# EAGLE library part CMV12000 (library andon-cmosis)
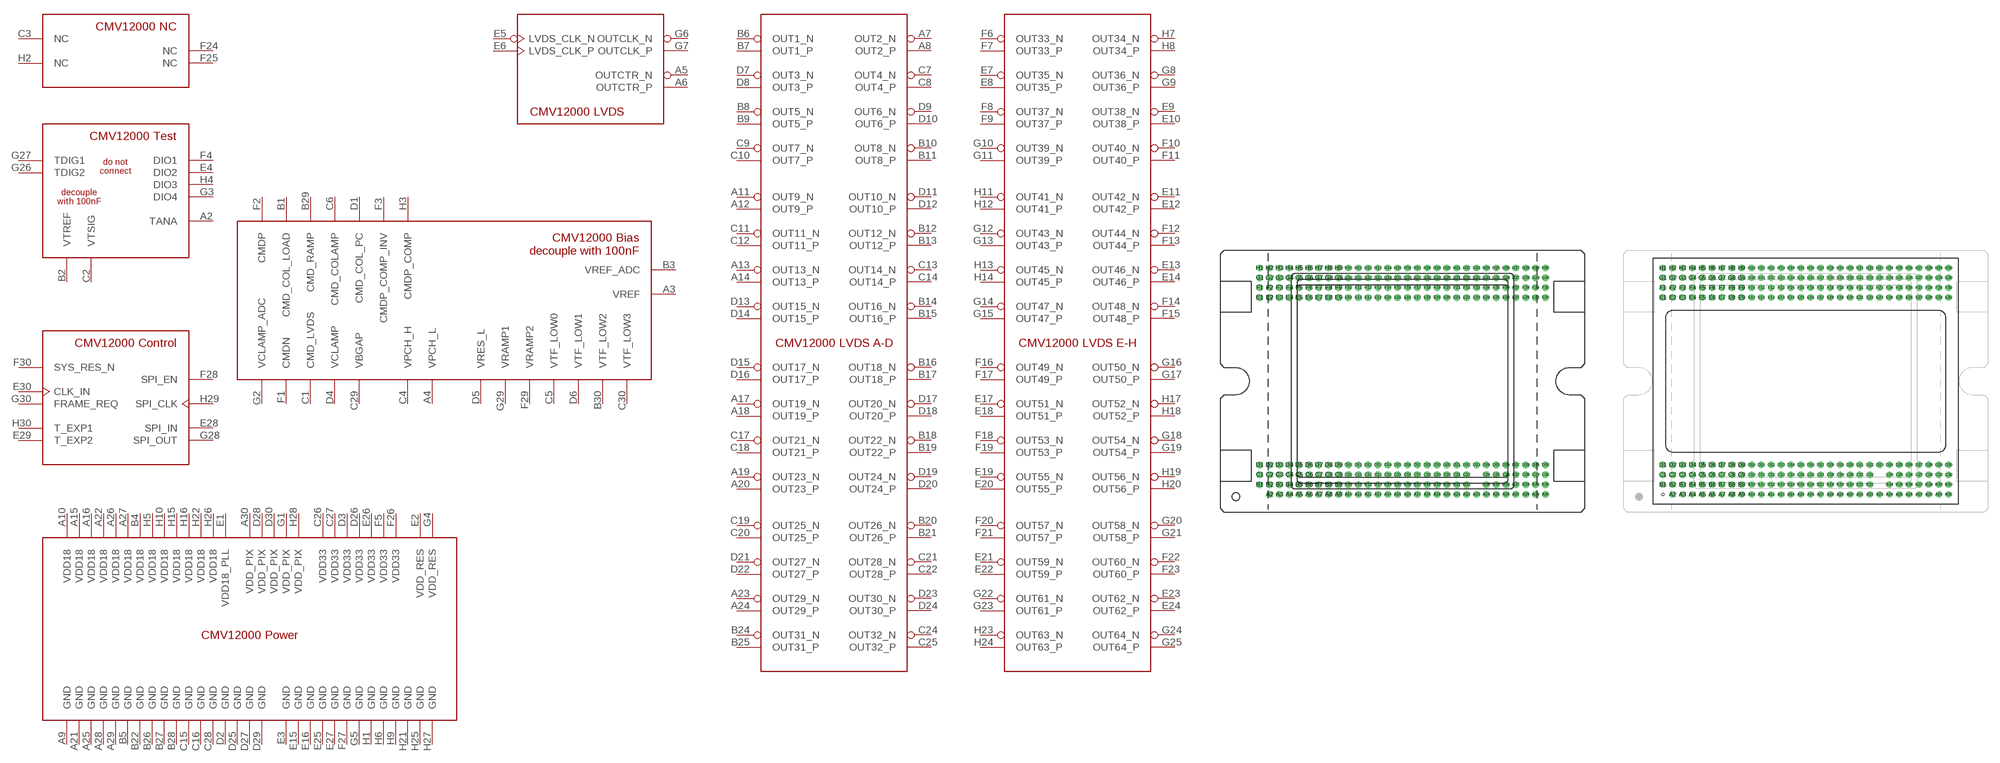
[diagram p0: symbol with the pads of CMV12000; footprints CMV12000, 10-30-07-237-400T4]

Designator prefix -; gates G$1=CMV12000 G$2=CMV12000_BIAS G$3=CMV12000_LVDS G$4=CMV12000_LVDS_AD G$5=CMV12000_LVDS_EH G$6=CMV12000_NC G$7=CMV12000_POWER G$8=CMV12000_TEST

## CMV12000  [CMV12000]
A2  G$8:TANA  out
A3  G$2:VREF
A4  G$2:VPCH_L
A5  G$3:OUTCTR_N  out
A6  G$3:OUTCTR_P  out
A7  G$4:OUT2_N  out
A8  G$4:OUT2_P  out
A9  G$7:GND  pwr
A10  G$7:VDD18  pwr
A11  G$4:OUT9_N  out
A12  G$4:OUT9_P  out
A13  G$4:OUT13_N  out
A14  G$4:OUT13_P  out
A15  G$7:VDD18  pwr
A16  G$7:VDD18  pwr
A17  G$4:OUT19_N  out
A18  G$4:OUT19_P  out
A19  G$4:OUT23_N  out
A20  G$4:OUT23_P  out
A21  G$7:GND  pwr
A22  G$7:VDD18  pwr
A23  G$4:OUT29_N  out
A24  G$4:OUT29_P  out
A25  G$7:GND  pwr
A26  G$7:VDD18  pwr
A27  G$7:VDD18  pwr
A28  G$7:GND  pwr
A29  G$7:GND  pwr
A30  G$7:VDD_PIX  pwr
B1  G$2:CMD_COL_LOAD
B2  G$8:VTREF
B3  G$2:VREF_ADC
B4  G$7:VDD18  pwr
B5  G$7:GND  pwr
B6  G$4:OUT1_N  out
B7  G$4:OUT1_P  out
B8  G$4:OUT5_N  out
B9  G$4:OUT5_P  out
B10  G$4:OUT8_N  out
B11  G$4:OUT8_P  out
B12  G$4:OUT12_N  out
B13  G$4:OUT12_P  out
B14  G$4:OUT16_N  out
B15  G$4:OUT16_P  out
B16  G$4:OUT18_N  out
B17  G$4:OUT18_P  out
B18  G$4:OUT22_N  out
B19  G$4:OUT22_P  out
B20  G$4:OUT26_N  out
B21  G$4:OUT26_P  out
B22  G$7:GND  pwr
B24  G$4:OUT31_N  out
B25  G$4:OUT31_P  out
B26  G$7:GND  pwr
B27  G$7:GND  pwr
B28  G$7:GND  pwr
B29  G$2:CMD_RAMP
B30  G$2:VTF_LOW2
C1  G$2:CMD_LVDS
C2  G$8:VTSIG
C3  G$6:NC  nc
C4  G$2:VPCH_H
C5  G$2:VTF_LOW0
C6  G$2:CMD_COLAMP
C7  G$4:OUT4_N  out
C8  G$4:OUT4_P  out
C9  G$4:OUT7_N  out
C10  G$4:OUT7_P  out
C11  G$4:OUT11_N  out
C12  G$4:OUT11_P  out
C13  G$4:OUT14_N  out
C14  G$4:OUT14_P  out
C15  G$7:GND  pwr
C16  G$7:GND  pwr
C17  G$4:OUT21_N  out
C18  G$4:OUT21_P  out
C19  G$4:OUT25_N  out
C20  G$4:OUT25_P  out
C21  G$4:OUT28_N  out
C22  G$4:OUT28_P  out
C24  G$4:OUT32_N  out
C25  G$4:OUT32_P  out
C26  G$7:VDD33  pwr
C27  G$7:VDD33  pwr
C28  G$7:GND  pwr
C29  G$2:VBGAP
C30  G$2:VTF_LOW3
D1  G$2:CMD_COL_PC
D2  G$7:GND  pwr
D3  G$7:VDD33  pwr
D4  G$2:VCLAMP
D5  G$2:VRES_L
D6  G$2:VTF_LOW1
D7  G$4:OUT3_N  out
D8  G$4:OUT3_P  out
D9  G$4:OUT6_N  out
D10  G$4:OUT6_P  out
D11  G$4:OUT10_N  out
D12  G$4:OUT10_P  out
D13  G$4:OUT15_N  out
D14  G$4:OUT15_P  out
D15  G$4:OUT17_N  out
D16  G$4:OUT17_P  out
D17  G$4:OUT20_N  out
D18  G$4:OUT20_P  out
D19  G$4:OUT24_N  out
D20  G$4:OUT24_P  out
D21  G$4:OUT27_N  out
D22  G$4:OUT27_P  out
D23  G$4:OUT30_N  out
D24  G$4:OUT30_P  out
D25  G$7:GND  pwr
D26  G$7:VDD33  pwr
D27  G$7:GND  pwr
D28  G$7:VDD_PIX  pwr
D29  G$7:GND  pwr
D30  G$7:VDD_PIX  pwr
E1  G$7:VDD18_PLL  pwr
E2  G$7:VDD_RES  pwr
E3  G$7:GND  pwr
E4  G$8:DIO2  out
E5  G$3:LVDS_CLK_N  in
E6  G$3:LVDS_CLK_P  in
E7  G$5:OUT35_N  out
E8  G$5:OUT35_P  out
E9  G$5:OUT38_N  out
E10  G$5:OUT38_P  out
E11  G$5:OUT42_N  out
E12  G$5:OUT42_P  out
E13  G$5:OUT46_N  out
E14  G$5:OUT46_P  out
E15  G$7:GND  pwr
E16  G$7:GND  pwr
E17  G$5:OUT51_N  out
E18  G$5:OUT51_P  out
E19  G$5:OUT55_N  out
E20  G$5:OUT55_P  out
E21  G$5:OUT59_N  out
E22  G$5:OUT59_P  out
E23  G$5:OUT62_N  out
E24  G$5:OUT62_P  out
E25  G$7:GND  pwr
E26  G$7:VDD33  pwr
E27  G$7:GND  pwr
E28  G$1:SPI_IN  in
E29  G$1:T_EXP2  in
E30  G$1:CLK_IN  in
F1  G$2:CMDN
F2  G$2:CMDP
F3  G$2:CMDP_COMP_INV
F4  G$8:DIO1  out
F5  G$7:VDD33  pwr
F6  G$5:OUT33_N  out
F7  G$5:OUT33_P  out
F8  G$5:OUT37_N  out
F9  G$5:OUT37_P  out
F10  G$5:OUT40_N  out
F11  G$5:OUT40_P  out
F12  G$5:OUT44_N  out
F13  G$5:OUT44_P  out
F14  G$5:OUT48_N  out
F15  G$5:OUT48_P  out
F16  G$5:OUT49_N  out
F17  G$5:OUT49_P  out
F18  G$5:OUT53_N  out
F19  G$5:OUT53_P  out
F20  G$5:OUT57_N  out
F21  G$5:OUT57_P  out
F22  G$5:OUT60_N  out
F23  G$5:OUT60_P  out
F24  G$6:NC  nc
F25  G$6:NC  nc
F26  G$7:VDD33  pwr
F27  G$7:GND  pwr
F28  G$1:SPI_EN  in
F29  G$2:VRAMP2
F30  G$1:SYS_RES_N  in
G1  G$7:VDD_PIX  pwr
G2  G$2:VCLAMP_ADC
G3  G$8:DIO4  out
G4  G$7:VDD_RES  pwr
G5  G$7:GND  pwr
G6  G$3:OUTCLK_N  out
G7  G$3:OUTCLK_P  out
G8  G$5:OUT36_N  out
G9  G$5:OUT36_P  out
G10  G$5:OUT39_N  out
G11  G$5:OUT39_P  out
G12  G$5:OUT43_N  out
G13  G$5:OUT43_P  out
G14  G$5:OUT47_N  out
G15  G$5:OUT47_P  out
G16  G$5:OUT50_N  out
G17  G$5:OUT50_P  out
G18  G$5:OUT54_N  out
G19  G$5:OUT54_P  out
G20  G$5:OUT58_N  out
G21  G$5:OUT58_P  out
G22  G$5:OUT61_N  out
G23  G$5:OUT61_P  out
G24  G$5:OUT64_N  out
G25  G$5:OUT64_P  out
G26  G$8:TDIG2  out
G27  G$8:TDIG1  out
G28  G$1:SPI_OUT  out
G29  G$2:VRAMP1
G30  G$1:FRAME_REQ  in
H1  G$7:GND  pwr
H2  G$6:NC  nc
H3  G$2:CMDP_COMP
H4  G$8:DIO3  out
H5  G$7:VDD18  pwr
H6  G$7:GND  pwr
H7  G$5:OUT34_N  out
H8  G$5:OUT34_P  out
H9  G$7:GND  pwr
H10  G$7:VDD18  pwr
H11  G$5:OUT41_N  out
H12  G$5:OUT41_P  out
H13  G$5:OUT45_N  out
H14  G$5:OUT45_P  out
H15  G$7:VDD18  pwr
H16  G$7:VDD18  pwr
H17  G$5:OUT52_N  out
H18  G$5:OUT52_P  out
H19  G$5:OUT56_N  out
H20  G$5:OUT56_P  out
H21  G$7:GND  pwr
H22  G$7:VDD18  pwr
H23  G$5:OUT63_N  out
H24  G$5:OUT63_P  out
H25  G$7:GND  pwr
H26  G$7:VDD18  pwr
H27  G$7:GND  pwr
H28  G$7:VDD_PIX  pwr
H29  G$1:SPI_CLK  in
H30  G$1:T_EXP1  in

## CMV12000ANDON  [10-30-07-237-400T4]
Pads as for CMV12000

## CMV12000ANDON+LM  [10-30-07-237-400T4+LM]
Pads as for CMV12000

## Footprint CMV12000 (pad centres in mm)
drill 0.35: A2 -17.145,-14.605; A3 -15.875,-14.605; A4 -14.605,-14.605; A5 -13.335,-14.605; A6 -12.065,-14.605; A7 -10.795,-14.605; A8 -9.525,-14.605; A9 -8.255,-14.605; A10 -6.985,-14.605; A11 -5.715,-14.605; A12 -4.445,-14.605; A13 -3.175,-14.605; A14 -1.905,-14.605; A15 -0.635,-14.605; A16 0.635,-14.605; A17 1.905,-14.605; A18 3.175,-14.605; A19 4.445,-14.605; A20 5.715,-14.605; A21 6.985,-14.605; A22 8.255,-14.605; A23 9.525,-14.605; A24 10.795,-14.605; A25 12.065,-14.605; A26 13.335,-14.605; A27 14.605,-14.605; A28 15.875,-14.605; A29 17.145,-14.605; A30 18.415,-14.605; B1 -18.415,-13.335; B2 -17.145,-13.335; B3 -15.875,-13.335; B4 -14.605,-13.335; B5 -13.335,-13.335; B6 -12.065,-13.335; B7 -10.795,-13.335; B8 -9.525,-13.335; B9 -8.255,-13.335; B10 -6.985,-13.335; B11 -5.715,-13.335; B12 -4.445,-13.335; B13 -3.175,-13.335; B14 -1.905,-13.335; B15 -0.635,-13.335; B16 0.635,-13.335; B17 1.905,-13.335; B18 3.175,-13.335; B19 4.445,-13.335; B20 5.715,-13.335; B21 6.985,-13.335; B22 8.255,-13.335; B24 10.795,-13.335; B25 12.065,-13.335; B26 13.335,-13.335; B27 14.605,-13.335; B28 15.875,-13.335; B29 17.145,-13.335; B30 18.415,-13.335; C1 -18.415,-12.065; C2 -17.145,-12.065; C3 -15.875,-12.065; C4 -14.605,-12.065; C5 -13.335,-12.065; C6 -12.065,-12.065; C7 -10.795,-12.065; C8 -9.525,-12.065; C9 -8.255,-12.065; C10 -6.985,-12.065; C11 -5.715,-12.065; C12 -4.445,-12.065; C13 -3.175,-12.065; C14 -1.905,-12.065; C15 -0.635,-12.065; C16 0.635,-12.065; C17 1.905,-12.065; C18 3.175,-12.065; C19 4.445,-12.065; C20 5.715,-12.065; C21 6.985,-12.065; C22 8.255,-12.065; C24 10.795,-12.065; C25 12.065,-12.065; C26 13.335,-12.065; C27 14.605,-12.065; C28 15.875,-12.065; C29 17.145,-12.065; C30 18.415,-12.065; D1 -18.415,-10.795; D2 -17.145,-10.795; D3 -15.875,-10.795; D4 -14.605,-10.795; D5 -13.335,-10.795; D6 -12.065,-10.795; D7 -10.795,-10.795; D8 -9.525,-10.795; D9 -8.255,-10.795; D10 -6.985,-10.795; D11 -5.715,-10.795; D12 -4.445,-10.795; D13 -3.175,-10.795; D14 -1.905,-10.795; D15 -0.635,-10.795; D16 0.635,-10.795; D17 1.905,-10.795; D18 3.175,-10.795; D19 4.445,-10.795; D20 5.715,-10.795; D21 6.985,-10.795; D22 8.255,-10.795; D23 9.525,-10.795; D24 10.795,-10.795; D25 12.065,-10.795; D26 13.335,-10.795; D27 14.605,-10.795; D28 15.875,-10.795; D29 17.145,-10.795; D30 18.415,-10.795; E1 -18.415,10.795; E2 -17.145,10.795; E3 -15.875,10.795; E4 -14.605,10.795; E5 -13.335,10.795; E6 -12.065,10.795; E7 -10.795,10.795; E8 -9.525,10.795; E9 -8.255,10.795; E10 -6.985,10.795; E11 -5.715,10.795; E12 -4.445,10.795; E13 -3.175,10.795; E14 -1.905,10.795; E15 -0.635,10.795; E16 0.635,10.795; E17 1.905,10.795; E18 3.175,10.795; E19 4.445,10.795; E20 5.715,10.795; E21 6.985,10.795; E22 8.255,10.795; E23 9.525,10.795; E24 10.795,10.795; E25 12.065,10.795; E26 13.335,10.795; E27 14.605,10.795; E28 15.875,10.795; E29 17.145,10.795; E30 18.415,10.795; F1 -18.415,12.065; F2 -17.145,12.065; F3 -15.875,12.065; F4 -14.605,12.065; F5 -13.335,12.065; F6 -12.065,12.065; F7 -10.795,12.065; F8 -9.525,12.065; F9 -8.255,12.065; F10 -6.985,12.065; F11 -5.715,12.065; F12 -4.445,12.065; F13 -3.175,12.065; F14 -1.905,12.065; F15 -0.635,12.065; F16 0.635,12.065; F17 1.905,12.065; F18 3.175,12.065; F19 4.445,12.065; F20 5.715,12.065; F21 6.985,12.065; F22 8.255,12.065; F23 9.525,12.065; F24 10.795,12.065; F25 12.065,12.065; F26 13.335,12.065; F27 14.605,12.065; F28 15.875,12.065; F29 17.145,12.065; F30 18.415,12.065; G1 -18.415,13.335; G2 -17.145,13.335; G3 -15.875,13.335; G4 -14.605,13.335; G5 -13.335,13.335; G6 -12.065,13.335; G7 -10.795,13.335; G8 -9.525,13.335; G9 -8.255,13.335; G10 -6.985,13.335; G11 -5.715,13.335; G12 -4.445,13.335; G13 -3.175,13.335; G14 -1.905,13.335; G15 -0.635,13.335; G16 0.635,13.335; G17 1.905,13.335; G18 3.175,13.335; G19 4.445,13.335; G20 5.715,13.335; G21 6.985,13.335; G22 8.255,13.335; G23 9.525,13.335; G24 10.795,13.335; G25 12.065,13.335; G26 13.335,13.335; G27 14.605,13.335; G28 15.875,13.335; G29 17.145,13.335; G30 18.415,13.335; H1 -18.415,14.605; H2 -17.145,14.605; H3 -15.875,14.605; H4 -14.605,14.605; H5 -13.335,14.605; H6 -12.065,14.605; H7 -10.795,14.605; H8 -9.525,14.605; H9 -8.255,14.605; H10 -6.985,14.605; H11 -5.715,14.605; H12 -4.445,14.605; H13 -3.175,14.605; H14 -1.905,14.605; H15 -0.635,14.605; H16 0.635,14.605; H17 1.905,14.605; H18 3.175,14.605; H19 4.445,14.605; H20 5.715,14.605; H21 6.985,14.605; H22 8.255,14.605; H23 9.525,14.605; H24 10.795,14.605; H25 12.065,14.605; H26 13.335,14.605; H27 14.605,14.605; H28 15.875,14.605; H29 17.145,14.605; H30 18.415,14.605

## Footprint 10-30-07-237-400T4 (pad centres in mm)
drill 0.3: A2 -17.145,-14.605; A3 -15.875,-14.605; A4 -14.605,-14.605; A5 -13.335,-14.605; A6 -12.065,-14.605; A7 -10.795,-14.605; A8 -9.525,-14.605; A9 -8.255,-14.605; A10 -6.985,-14.605; A11 -5.715,-14.605; A12 -4.445,-14.605; A13 -3.175,-14.605; A14 -1.905,-14.605; A15 -0.635,-14.605; A16 0.635,-14.605; A17 1.905,-14.605; A18 3.175,-14.605; A19 4.445,-14.605; A20 5.715,-14.605; A21 6.985,-14.605; A22 8.255,-14.605; A23 9.525,-14.605; A24 10.795,-14.605; A25 12.065,-14.605; A26 13.335,-14.605; A27 14.605,-14.605; A28 15.875,-14.605; A29 17.145,-14.605; A30 18.415,-14.605; B1 -18.415,-13.335; B2 -17.145,-13.335; B3 -15.875,-13.335; B4 -14.605,-13.335; B5 -13.335,-13.335; B6 -12.065,-13.335; B7 -10.795,-13.335; B8 -9.525,-13.335; B9 -8.255,-13.335; B10 -6.985,-13.335; B11 -5.715,-13.335; B12 -4.445,-13.335; B13 -3.175,-13.335; B14 -1.905,-13.335; B15 -0.635,-13.335; B16 0.635,-13.335; B17 1.905,-13.335; B18 3.175,-13.335; B19 4.445,-13.335; B20 5.715,-13.335; B21 6.985,-13.335; B22 8.255,-13.335; B24 10.795,-13.335; B25 12.065,-13.335; B26 13.335,-13.335; B27 14.605,-13.335; B28 15.875,-13.335; B29 17.145,-13.335; B30 18.415,-13.335; C1 -18.415,-12.065; C2 -17.145,-12.065; C3 -15.875,-12.065; C4 -14.605,-12.065; C5 -13.335,-12.065; C6 -12.065,-12.065; C7 -10.795,-12.065; C8 -9.525,-12.065; C9 -8.255,-12.065; C10 -6.985,-12.065; C11 -5.715,-12.065; C12 -4.445,-12.065; C13 -3.175,-12.065; C14 -1.905,-12.065; C15 -0.635,-12.065; C16 0.635,-12.065; C17 1.905,-12.065; C18 3.175,-12.065; C19 4.445,-12.065; C20 5.715,-12.065; C21 6.985,-12.065; C22 8.255,-12.065; C24 10.795,-12.065; C25 12.065,-12.065; C26 13.335,-12.065; C27 14.605,-12.065; C28 15.875,-12.065; C29 17.145,-12.065; C30 18.415,-12.065; D1 -18.415,-10.795; D2 -17.145,-10.795; D3 -15.875,-10.795; D4 -14.605,-10.795; D5 -13.335,-10.795; D6 -12.065,-10.795; D7 -10.795,-10.795; D8 -9.525,-10.795; D9 -8.255,-10.795; D10 -6.985,-10.795; D11 -5.715,-10.795; D12 -4.445,-10.795; D13 -3.175,-10.795; D14 -1.905,-10.795; D15 -0.635,-10.795; D16 0.635,-10.795; D17 1.905,-10.795; D18 3.175,-10.795; D19 4.445,-10.795; D20 5.715,-10.795; D21 6.985,-10.795; D22 8.255,-10.795; D23 9.525,-10.795; D24 10.795,-10.795; D25 12.065,-10.795; D26 13.335,-10.795; D27 14.605,-10.795; D28 15.875,-10.795; D29 17.145,-10.795; D30 18.415,-10.795; E1 -18.415,10.795; E2 -17.145,10.795; E3 -15.875,10.795; E4 -14.605,10.795; E5 -13.335,10.795; E6 -12.065,10.795; E7 -10.795,10.795; E8 -9.525,10.795; E9 -8.255,10.795; E10 -6.985,10.795; E11 -5.715,10.795; E12 -4.445,10.795; E13 -3.175,10.795; E14 -1.905,10.795; E15 -0.635,10.795; E16 0.635,10.795; E17 1.905,10.795; E18 3.175,10.795; E19 4.445,10.795; E20 5.715,10.795; E21 6.985,10.795; E22 8.255,10.795; E23 9.525,10.795; E24 10.795,10.795; E25 12.065,10.795; E26 13.335,10.795; E27 14.605,10.795; E28 15.875,10.795; E29 17.145,10.795; E30 18.415,10.795; F1 -18.415,12.065; F2 -17.145,12.065; F3 -15.875,12.065; F4 -14.605,12.065; F5 -13.335,12.065; F6 -12.065,12.065; F7 -10.795,12.065; F8 -9.525,12.065; F9 -8.255,12.065; F10 -6.985,12.065; F11 -5.715,12.065; F12 -4.445,12.065; F13 -3.175,12.065; F14 -1.905,12.065; F15 -0.635,12.065; F16 0.635,12.065; F17 1.905,12.065; F18 3.175,12.065; F19 4.445,12.065; F20 5.715,12.065; F21 6.985,12.065; F22 8.255,12.065; F23 9.525,12.065; F24 10.795,12.065; F25 12.065,12.065; F26 13.335,12.065; F27 14.605,12.065; F28 15.875,12.065; F29 17.145,12.065; F30 18.415,12.065; G1 -18.415,13.335; G2 -17.145,13.335; G3 -15.875,13.335; G4 -14.605,13.335; G5 -13.335,13.335; G6 -12.065,13.335; G7 -10.795,13.335; G8 -9.525,13.335; G9 -8.255,13.335; G10 -6.985,13.335; G11 -5.715,13.335; G12 -4.445,13.335; G13 -3.175,13.335; G14 -1.905,13.335; G15 -0.635,13.335; G16 0.635,13.335; G17 1.905,13.335; G18 3.175,13.335; G19 4.445,13.335; G20 5.715,13.335; G21 6.985,13.335; G22 8.255,13.335; G23 9.525,13.335; G24 10.795,13.335; G25 12.065,13.335; G26 13.335,13.335; G27 14.605,13.335; G28 15.875,13.335; G29 17.145,13.335; G30 18.415,13.335; H1 -18.415,14.605; H2 -17.145,14.605; H3 -15.875,14.605; H4 -14.605,14.605; H5 -13.335,14.605; H6 -12.065,14.605; H7 -10.795,14.605; H8 -9.525,14.605; H9 -8.255,14.605; H10 -6.985,14.605; H11 -5.715,14.605; H12 -4.445,14.605; H13 -3.175,14.605; H14 -1.905,14.605; H15 -0.635,14.605; H16 0.635,14.605; H17 1.905,14.605; H18 3.175,14.605; H19 4.445,14.605; H20 5.715,14.605; H21 6.985,14.605; H22 8.255,14.605; H23 9.525,14.605; H24 10.795,14.605; H25 12.065,14.605; H26 13.335,14.605; H27 14.605,14.605; H28 15.875,14.605; H29 17.145,14.605; H30 18.415,14.605
hole 0.3 at -18.415,-14.605

## Footprint 10-30-07-237-400T4+LM (pad centres in mm)
drill 0.3: A2 -17.145,-14.605; A3 -15.875,-14.605; A4 -14.605,-14.605; A5 -13.335,-14.605; A6 -12.065,-14.605; A7 -10.795,-14.605; A8 -9.525,-14.605; A9 -8.255,-14.605; A10 -6.985,-14.605; A11 -5.715,-14.605; A12 -4.445,-14.605; A13 -3.175,-14.605; A14 -1.905,-14.605; A15 -0.635,-14.605; A16 0.635,-14.605; A17 1.905,-14.605; A18 3.175,-14.605; A19 4.445,-14.605; A20 5.715,-14.605; A21 6.985,-14.605; A22 8.255,-14.605; A23 9.525,-14.605; A24 10.795,-14.605; A25 12.065,-14.605; A26 13.335,-14.605; A27 14.605,-14.605; A28 15.875,-14.605; A29 17.145,-14.605; A30 18.415,-14.605; B1 -18.415,-13.335; B2 -17.145,-13.335; B3 -15.875,-13.335; B4 -14.605,-13.335; B5 -13.335,-13.335; B6 -12.065,-13.335; B7 -10.795,-13.335; B8 -9.525,-13.335; B9 -8.255,-13.335; B10 -6.985,-13.335; B11 -5.715,-13.335; B12 -4.445,-13.335; B13 -3.175,-13.335; B14 -1.905,-13.335; B15 -0.635,-13.335; B16 0.635,-13.335; B17 1.905,-13.335; B18 3.175,-13.335; B19 4.445,-13.335; B20 5.715,-13.335; B21 6.985,-13.335; B22 8.255,-13.335; B24 10.795,-13.335; B25 12.065,-13.335; B26 13.335,-13.335; B27 14.605,-13.335; B28 15.875,-13.335; B29 17.145,-13.335; B30 18.415,-13.335; C1 -18.415,-12.065; C2 -17.145,-12.065; C3 -15.875,-12.065; C4 -14.605,-12.065; C5 -13.335,-12.065; C6 -12.065,-12.065; C7 -10.795,-12.065; C8 -9.525,-12.065; C9 -8.255,-12.065; C10 -6.985,-12.065; C11 -5.715,-12.065; C12 -4.445,-12.065; C13 -3.175,-12.065; C14 -1.905,-12.065; C15 -0.635,-12.065; C16 0.635,-12.065; C17 1.905,-12.065; C18 3.175,-12.065; C19 4.445,-12.065; C20 5.715,-12.065; C21 6.985,-12.065; C22 8.255,-12.065; C24 10.795,-12.065; C25 12.065,-12.065; C26 13.335,-12.065; C27 14.605,-12.065; C28 15.875,-12.065; C29 17.145,-12.065; C30 18.415,-12.065; D1 -18.415,-10.795; D2 -17.145,-10.795; D3 -15.875,-10.795; D4 -14.605,-10.795; D5 -13.335,-10.795; D6 -12.065,-10.795; D7 -10.795,-10.795; D8 -9.525,-10.795; D9 -8.255,-10.795; D10 -6.985,-10.795; D11 -5.715,-10.795; D12 -4.445,-10.795; D13 -3.175,-10.795; D14 -1.905,-10.795; D15 -0.635,-10.795; D16 0.635,-10.795; D17 1.905,-10.795; D18 3.175,-10.795; D19 4.445,-10.795; D20 5.715,-10.795; D21 6.985,-10.795; D22 8.255,-10.795; D23 9.525,-10.795; D24 10.795,-10.795; D25 12.065,-10.795; D26 13.335,-10.795; D27 14.605,-10.795; D28 15.875,-10.795; D29 17.145,-10.795; D30 18.415,-10.795; E1 -18.415,10.795; E2 -17.145,10.795; E3 -15.875,10.795; E4 -14.605,10.795; E5 -13.335,10.795; E6 -12.065,10.795; E7 -10.795,10.795; E8 -9.525,10.795; E9 -8.255,10.795; E10 -6.985,10.795; E11 -5.715,10.795; E12 -4.445,10.795; E13 -3.175,10.795; E14 -1.905,10.795; E15 -0.635,10.795; E16 0.635,10.795; E17 1.905,10.795; E18 3.175,10.795; E19 4.445,10.795; E20 5.715,10.795; E21 6.985,10.795; E22 8.255,10.795; E23 9.525,10.795; E24 10.795,10.795; E25 12.065,10.795; E26 13.335,10.795; E27 14.605,10.795; E28 15.875,10.795; E29 17.145,10.795; E30 18.415,10.795; F1 -18.415,12.065; F2 -17.145,12.065; F3 -15.875,12.065; F4 -14.605,12.065; F5 -13.335,12.065; F6 -12.065,12.065; F7 -10.795,12.065; F8 -9.525,12.065; F9 -8.255,12.065; F10 -6.985,12.065; F11 -5.715,12.065; F12 -4.445,12.065; F13 -3.175,12.065; F14 -1.905,12.065; F15 -0.635,12.065; F16 0.635,12.065; F17 1.905,12.065; F18 3.175,12.065; F19 4.445,12.065; F20 5.715,12.065; F21 6.985,12.065; F22 8.255,12.065; F23 9.525,12.065; F24 10.795,12.065; F25 12.065,12.065; F26 13.335,12.065; F27 14.605,12.065; F28 15.875,12.065; F29 17.145,12.065; F30 18.415,12.065; G1 -18.415,13.335; G2 -17.145,13.335; G3 -15.875,13.335; G4 -14.605,13.335; G5 -13.335,13.335; G6 -12.065,13.335; G7 -10.795,13.335; G8 -9.525,13.335; G9 -8.255,13.335; G10 -6.985,13.335; G11 -5.715,13.335; G12 -4.445,13.335; G13 -3.175,13.335; G14 -1.905,13.335; G15 -0.635,13.335; G16 0.635,13.335; G17 1.905,13.335; G18 3.175,13.335; G19 4.445,13.335; G20 5.715,13.335; G21 6.985,13.335; G22 8.255,13.335; G23 9.525,13.335; G24 10.795,13.335; G25 12.065,13.335; G26 13.335,13.335; G27 14.605,13.335; G28 15.875,13.335; G29 17.145,13.335; G30 18.415,13.335; H1 -18.415,14.605; H2 -17.145,14.605; H3 -15.875,14.605; H4 -14.605,14.605; H5 -13.335,14.605; H6 -12.065,14.605; H7 -10.795,14.605; H8 -9.525,14.605; H9 -8.255,14.605; H10 -6.985,14.605; H11 -5.715,14.605; H12 -4.445,14.605; H13 -3.175,14.605; H14 -1.905,14.605; H15 -0.635,14.605; H16 0.635,14.605; H17 1.905,14.605; H18 3.175,14.605; H19 4.445,14.605; H20 5.715,14.605; H21 6.985,14.605; H22 8.255,14.605; H23 9.525,14.605; H24 10.795,14.605; H25 12.065,14.605; H26 13.335,14.605; H27 14.605,14.605; H28 15.875,14.605; H29 17.145,14.605; H30 18.415,14.605
hole 0.3 at -18.415,-14.605
hole 3.2 at 27.5,12.5
hole 3.2 at 27.5,-12.5
hole 3.2 at -27.5,-12.5
hole 3.2 at -27.5,12.5